# Altium schematic symbol library minireg.SchLib: 13 symbols
Pins are listed as number, name and electrical type; pins without a type are passive.

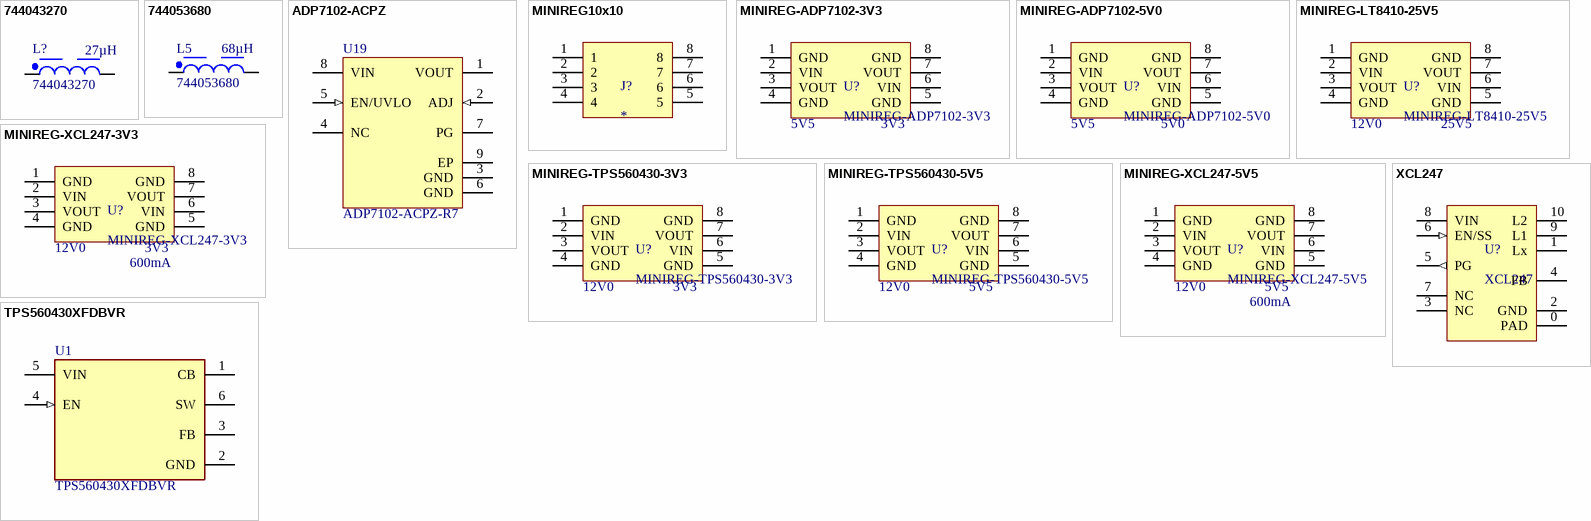
[diagram p0: symbols 744043270 to XCL247]

## 744043270
designator L?  Inductance: 27µH
NexarPartId: 39208936; DC Resistance (DCR): 170mΩ; Current Rating: 890mA; Min Operating Temperature: -40°C; RoHS: Compliant; Length: 4.8mm; Number of Pins: 2; Width: 4.8mm; Height: 2.8mm; Max Operating Temperature: 125°C; Ambient Temperature Range Low: -40°C; Ambient Temperature Range High: 95°C
footprint WE-TPC_4828 (Power Inductor, SMD, 2-Leads, body 4.8x4.8mm)
pins: 1, 2

## 744053680
designator L5  Inductance: 68µH
IND SM 68uH 5.8x5.8MM; NexarPartId: 22803254; Series Resistance: 350mΩ; Saturation Current: 560mA; Core Material: Ferrite; Current Rating: 750mA; Test Frequency: 100kHz; Self Resonant Frequency: 10MHz; DC Resistance (DCR): 300mΩ; Inductance Tolerance: 30%; Shielding: Shielded; Min Operating Temperature: -40°C; Packaging: Digi-Reel®; Termination: SMD/SMT; Length: 5.8mm; Composition: Wirewound; Max DC Current: 750mA; Ambient Temperature Range High: 95°C; Height: 2.8mm; Depth: 5.8mm; Height - Seated (Max): 2.9972mm; Case/Package: 2323; REACH SVHC: Unknown; Width: 5.8mm; Case Code (Imperial): 2323; Tolerance: 30%; Number of Pins: 2; Ambient Temperature Range Low: -40°C; Max Operating Temperature: 125°C; RMS Current (Irms): 750mA; Mount: Surface Mount; RoHS: Compliant; Case Code (Metric): 5858; Weight: 378.012541mg
footprint WE-TPC_5828 (Power Choke Shielded Wirewound 2.6uH 30% 100KHz Ferrite 3A 30mOhm DCR T/R)
pins: 1, 2

## ADP7102-ACPZ
designator U19, comment ADP7102-ACPZ-R7
300 mA, Low Noise, CMOS LDO, 3.3 to 20 V Vin, 1.22 to Vin-Vdo Vout, Industrial, 8-pin SON (CP-8-5), Reel; Manufacturer: Analog Devices; PartNumber: ADP7102ACPZ-R7; Vin (min) (V): 3.3; Vin (max) (V): 20; Vout Adjustable Range: 1.22V to 19V; Iout max: 300mA; Supply Current IGND @ Small Load: 400uA; ComponentLink3URL: http://www.analog.com/static/imported-files/packages/PKG_PDF/LFCSP(CP)/CP_8_5.pdf; ComponentLink3Description: Package Specification; ComponentLink1URL: http://www.analog.com/en/index.html; ComponentLink4URL: Product URL:http://www.analog.com/en/ADP7102/productSearch.html; DatasheetVersion: Rev. A; PackageDescription: 8-Pin Lead Frame Chip Scale Package, Body 3 x 3 mm, Pitch 0.5 mm; Packing: Reel; ComponentLink2Description: Datasheet; ComponentLink4Description: URL Link1; ComponentLink1Description: Manufacturer URL; ComponentLink2URL: http://www.analog.com/static/imported-files/data_sheets/ADP7102.pdf; Mounting Technology: Surface Mount; PackageVersion: 031208-A, 03/2008; PackageReference: CP-8-5
footprint ADP7102ACPZ-R7 (SON, 8-Leads, Body 3x3mm, Pitch 0.5mm, Thermal Pad 1.74x2.38mm)
pins: 1 VOUT (power) "Regulated Output Voltage. Bypass VOUT to GND with a 1 ¦ÌF or greater capacitor.", 2 ADJ (in) "Adjust Input (ADJ). An external resistor divider sets the output voltage. This function applies to adjustable voltages only.", 3 GND (power) "Ground.", 4 NC "Do Not Connect to this Pin.", 5 EN/UVLO (in) "Enable Input (EN). Drive EN high to turn on the regulator; drive EN low to turn off the regulator. For automatic startup, connect EN to VIN. Programmable Undervoltage Lockout (UVLO). When the programmable UVLO function is (See Datasheet)", 6 GND (power) "Ground.", 7 PG (oc) "Power Good. This open-drain output requires an external pull-up resistor to VIN or VOUT. If the part is in shutdown, current limit, thermal shutdown, or falls below 90% of the nominal output voltage, PG immediately (See Datasheet)", 8 VIN (power) "Regulator Input Supply. Bypass VIN to GND with a 1 ¦ÌF or greater capacitor.", 9 EP (power) "Exposed Pad. Exposed paddle on the bottom of the package. The EPAD enhances thermal performance and is electrically connected to GND inside the package. It is highly recommended that the EPAD be connected to the ground plane (See Datasheet)"

## MINIREG10x10
designator J?
footprint MINIREG8_10x10R (8-pin 10x10mm castellated regulator footprint)
pins: 1 (power), 2 (power), 3 (power), 4 (power), 5 (power), 6 (power), 7 (power), 8 (power)

## MINIREG-ADP7102-3V3
designator U?  VIN: 5V5  VOUT: 3V3
MINIREG ADP7102 LDO 3V3 OUT
footprint MINIREG8_10x10_FP (8-pin 10x10mm castellated regulator board footprint)
pins: 1 GND (power), 2 VIN (power), 3 VOUT (power), 4 GND (power), 5 GND (power), 6 VIN (power), 7 VOUT (power), 8 GND (power)

## MINIREG-ADP7102-5V0
designator U?  VIN: 5V5  VOUT: 5V0
MINIREG ADP7102 LDO 5V0 OUT
footprint MINIREG8_10x10_FP (8-pin 10x10mm castellated regulator board footprint)
pins: 1 GND (power), 2 VIN (power), 3 VOUT (power), 4 GND (power), 5 GND (power), 6 VIN (power), 7 VOUT (power), 8 GND (power)

## MINIREG-LT8410-25V5
designator U?  VIN: 12V0  VOUT: 25V5
MINIREG LT8410 BOOST 25V5 OUT
footprint MINIREG8_10x10_FP (8-pin 10x10mm castellated regulator board footprint)
pins: 1 GND (power), 2 VIN (power), 3 VOUT (power), 4 GND (power), 5 GND (power), 6 VIN (power), 7 VOUT (power), 8 GND (power)

## MINIREG-TPS560430-3V3
designator U?  VIN: 12V0  VOUT: 3V3
MINIREG TPS560430 BUCK 3V3 OUT
footprint MINIREG8_10x10_FP (8-pin 10x10mm castellated regulator board footprint)
pins: 1 GND (power), 2 VIN (power), 3 VOUT (power), 4 GND (power), 5 GND (power), 6 VIN (power), 7 VOUT (power), 8 GND (power)

## MINIREG-TPS560430-5V5
designator U?  VIN: 12V0  VOUT: 5V5
MINIREG TPS560430 BUCK 5V5 OUT
footprint MINIREG8_10x10_FP (8-pin 10x10mm castellated regulator board footprint)
pins: 1 GND (power), 2 VIN (power), 3 VOUT (power), 4 GND (power), 5 GND (power), 6 VIN (power), 7 VOUT (power), 8 GND (power)

## MINIREG-XCL247-3V3
designator U?  IOUT: 600mA  VIN: 12V0  VOUT: 3V3
MINIREG XCL247 BUCK 3V3 OUT
footprint MINIREG8_10x10_FP (8-pin 10x10mm castellated regulator board footprint)
pins: 1 GND (power), 2 VIN (power), 3 VOUT (power), 4 GND (power), 5 GND (power), 6 VIN (power), 7 VOUT (power), 8 GND (power)

## MINIREG-XCL247-5V5
designator U?  IOUT: 600mA  VIN: 12V0  VOUT: 5V5
MINIREG XCL247 BUCK 5V5 OUT
footprint MINIREG8_10x10_FP (8-pin 10x10mm castellated regulator board footprint)
pins: 1 GND (power), 2 VIN (power), 3 VOUT (power), 4 GND (power), 5 GND (power), 6 VIN (power), 7 VOUT (power), 8 GND (power)

## TPS560430XFDBVR
designator U1
IC REG BUCK PWM 600MA SOT23-6; Max Output Voltage: 34.2V; Switching Frequency: 1.1MHz; Synchronous Rectifier: Yes; Min Output Voltage: 1V; Number of Outputs: 1; Max Input Voltage: 36V; Output Configuration: Positive; Min Input Voltage: 4V; RoHS Compliant: Yes; Output Current: 600mA; Max Operating Temperature: 125°C; Output Type: PWM; Mount: Surface Mount; Min Operating Temperature: -40°C; Packaging: Tape and Reel; Case/Package: SOT-23-6; Features: UVLO
footprint FP-DBV0006A-IPC_C
pins: 1 CB, 2 GND (power), 3 FB, 4 EN (in), 5 VIN (power), 6 SW

## XCL247
designator U?
footprint TOREX DFN3030-10B
pins: 0 PAD (power), 1 Lx (power), 2 GND (power), 3 NC (power), 4 FB (power), 5 PG (out), 6 EN/SS (in), 7 NC (power), 8 VIN (power), 9 L1 (power), 10 L2 (power)